# Altium schematic symbol library ANT_SINGLE_PORT.Schlib: 1 symbol
Pins are listed as number, name and electrical type; pins without a type are passive.

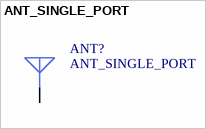
[diagram p0: symbol ANT_SINGLE_PORT]

## ANT_SINGLE_PORT
designator ANT?
pins: 1